# EAGLE library part DPDT (library TASLink)
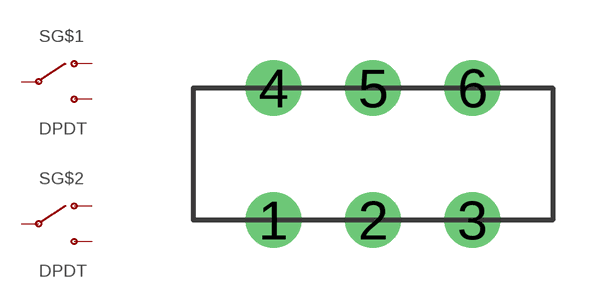
[diagram p5: symbol with the pads of JS202011CQN; footprint JS202011CQN]

Designator prefix S; gates G$1=SPDT G$2=SPDT

## DPDT  [JS202011CQN]
1  G$1:1
2  G$1:2
3  G$1:3
4  G$2:1
5  G$2:2
6  G$2:3

## Footprint JS202011CQN (pad centres in mm)
drill 0.889: 1 -2.489,-1.651; 2 0,-1.651; 3 2.489,-1.651; 4 -2.489,1.651; 5 0,1.651; 6 2.489,1.651